# EAGLE library part TL082 (library WallerLabLib)
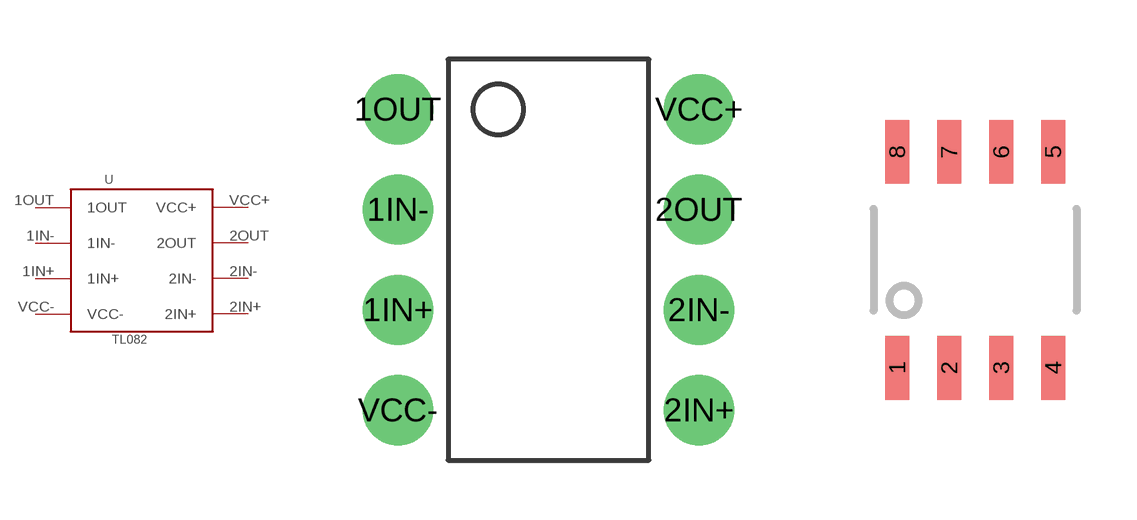
[diagram p3: symbol with the pads of 8-PDIP; footprints 8-PDIP, 8-SOIC-D-TI]

Designator prefix -

## TL082V1  [8-PDIP]
1IN+  1IN+
1IN-  1IN-
1OUT  1OUT
2IN+  2IN+
2IN-  2IN-
2OUT  2OUT
VCC+  VCC+
VCC-  VCC-

## TL082V2  [8-SOIC-D-TI]
1  1OUT
2  1IN-
3  1IN+
4  VCC-
5  2IN+
6  2IN-
7  2OUT
8  VCC+

## Footprint 8-PDIP (pad centres in mm)
drill 0.8 pad 1.778: 1IN+ -3.81,-1.27; 1IN- -3.81,1.27; 1OUT -3.81,3.81; 2IN+ 3.81,-3.81; 2IN- 3.81,-1.27; 2OUT 3.81,1.27; VCC+ 3.81,3.81; VCC- -3.81,-3.81

## Footprint 8-SOIC-D-TI (pad centres in mm)
smd 0.6 x 1.6: 1 -1.95,-2.7; 2 -0.65,-2.7; 3 0.65,-2.7; 4 1.95,-2.7; 5 1.95,2.7; 6 0.65,2.7; 7 -0.65,2.7; 8 -1.95,2.7